# Altium schematic symbol library C&K Slide Switch Vertical.SchLib: 1 symbol
Pins are listed as number, name and electrical type; pins without a type are passive.

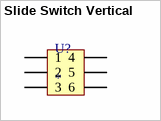
[diagram p0: symbol Slide Switch Vertical]

## Slide Switch Vertical
designator U?
Manufacturer: C&K; Manufacturer ID: JS202011CQN
pins: ?1 1, ?2 2, ?3 3, ?4 4, ?5 5, ?6 6